# Altium integrated library National Semiconductor Amplifier.IntLib: 1665 symbols (part 25 of 44)
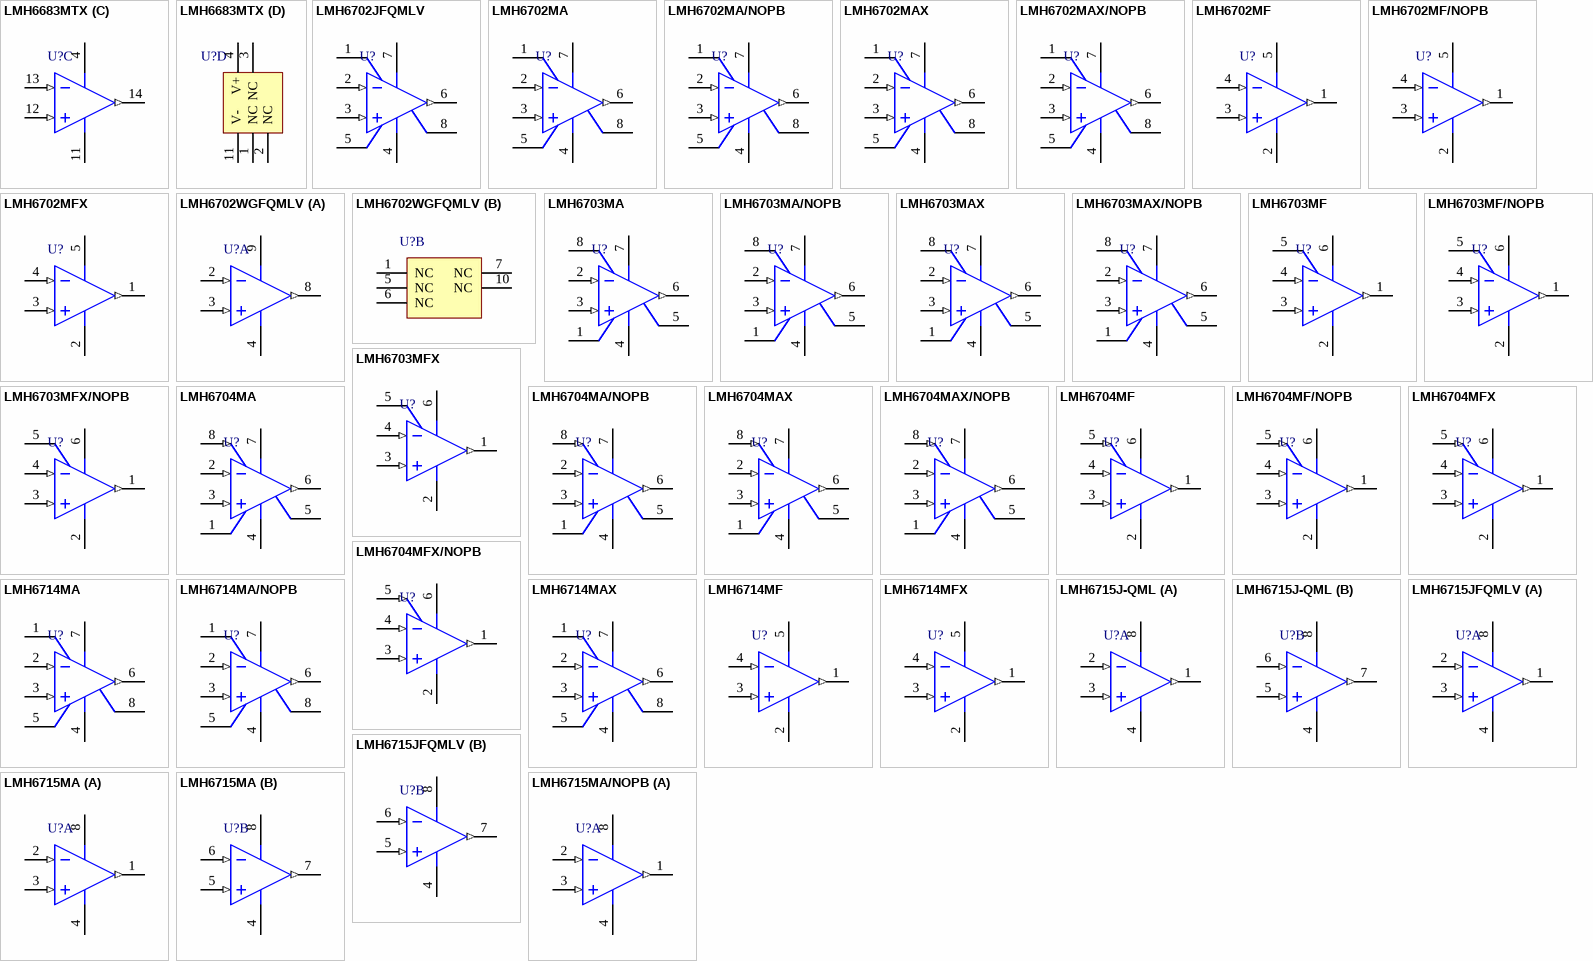
[diagram p108: symbols LMH6683MTX to LMH6715MA/NOPB]

## LMH6702MAX
designator U?
1.7 GHz, Ultra Low Distortion, Wideband Op Amp, 8-pin Narrow SOIC; PartNumber: LMH6702MAX; Manufacturer: National Semiconductor; PackageTopMarking: NSZXTT*LMH67*02MA; PowerWise: Y; CompType: Amplifiers; DatasheetVersion: May-2005; PackageVersion: revM, May-2009; PackageReference: M08A; PackageDescription: SOIC Narrow, 4.9 x 3.9 x 1.45mm, 8 Lead, 1.27mm Pitch; RoHS: N; PinCount: 8; High-Reliability: Y; Code_JEDEC: MS-012-AA; Code_IPC: SOIC127P600-8; ComponentLink1Description: Manufacturer URL; ComponentLink1URL: http://www.national.com/; ComponentLink2Description: LMH6702 Datasheet; ComponentLink2URL: http://www.national.com/ds/LM/LMH6702.pdf; ComponentLink3Description: LMH6702 Web Page; ComponentLink3URL: http://www.national.com/pf/LM/LMH6702.html; ComponentLink4Description: M08A Package Page; ComponentLink4URL: http://www.national.com/packaging/folders/m08a.html
footprint M08A_N (SOIC, 8-Leads, Body 4.9x3.9mm, Pitch 1.27mm, IPC Medium Density)
footprint M08A_L (SOIC, 8-Leads, Body 4.9x3.9mm, Pitch 1.27mm, IPC High Density)
footprint M08A_M (SOIC, 8-Leads, Body 4.9x3.9mm, Pitch 1.27mm, IPC Low Density)
pins: 1 NC, 2 IN- (in), 3 IN+ (in), 4 V- (power), 5 NC, 6 OUT (out), 7 V+ (power), 8 NC

## LMH6702MAX/NOPB
designator U?
1.7 GHz, Ultra Low Distortion, Wideband Op Amp, 8-pin Narrow SOIC, Pb-Free; PartNumber: LMH6702MAX/NOPB; Manufacturer: National Semiconductor; PackageTopMarking: NSZXTT*LMH67*02MA; PowerWise: Y; CompType: Amplifiers; DatasheetVersion: May-2005; PackageVersion: revM, May-2009; PackageReference: M08A; PackageDescription: SOIC Narrow, 4.9 x 3.9 x 1.45mm, 8 Lead, 1.27mm Pitch; RoHS: Y; PinCount: 8; High-Reliability: Y; Code_JEDEC: MS-012-AA; Code_IPC: SOIC127P600-8; ComponentLink1Description: Manufacturer URL; ComponentLink1URL: http://www.national.com/; ComponentLink2Description: LMH6702 Datasheet; ComponentLink2URL: http://www.national.com/ds/LM/LMH6702.pdf; ComponentLink3Description: LMH6702 Web Page; ComponentLink3URL: http://www.national.com/pf/LM/LMH6702.html; ComponentLink4Description: M08A Package Page; ComponentLink4URL: http://www.national.com/packaging/folders/m08a.html
footprint M08A_N (SOIC, 8-Leads, Body 4.9x3.9mm, Pitch 1.27mm, IPC Medium Density)
footprint M08A_L (SOIC, 8-Leads, Body 4.9x3.9mm, Pitch 1.27mm, IPC High Density)
footprint M08A_M (SOIC, 8-Leads, Body 4.9x3.9mm, Pitch 1.27mm, IPC Low Density)
pins: 1 NC, 2 IN- (in), 3 IN+ (in), 4 V- (power), 5 NC, 6 OUT (out), 7 V+ (power), 8 NC

## LMH6702MF
designator U?
1.7 GHz, Ultra Low Distortion, Wideband Op Amp, 5-pin SOT-23; PartNumber: LMH6702MF; Manufacturer: National Semiconductor; PackageTopMarking: A83A*XTT; PowerWise: Y; CompType: Amplifiers; DatasheetVersion: May-2005; PackageVersion: revD, Aug-2008; PackageReference: MF05A; PackageDescription: Molded SOT-23, .115 x .063 x .040 in Body, 5 Lead, .0375 in Pitch; RoHS: N; PinCount: 5; High-Reliability: Y; ComponentLink1Description: Manufacturer URL; ComponentLink1URL: http://www.national.com/; ComponentLink2Description: LMH6702 Datasheet; ComponentLink2URL: http://www.national.com/ds/LM/LMH6702.pdf; ComponentLink3Description: LMH6702 Web Page; ComponentLink3URL: http://www.national.com/pf/LM/LMH6702.html; ComponentLink4Description: MF05A Package Page; ComponentLink4URL: http://www.national.com/packaging/folders/mf05a.html
footprint MF05A_N (SOT23, 5-Leads, Body 2.9x1.6mm, Pitch 0.95mm, Lead Span 2.8mm, IPC Medium Density)
footprint MF05A_L (SOT23, 5-Leads, Body 2.9x1.6mm, Pitch 0.95mm, Lead Span 2.8mm, IPC High Density)
footprint MF05A_M (SOT23, 5-Leads, Body 2.9x1.6mm, Pitch 0.95mm, Lead Span 2.8mm, IPC Low Density)
pins: 1 OUT (out), 2 V- (power), 3 IN+ (in), 4 IN- (in), 5 V+ (power)

## LMH6702MF/NOPB
designator U?
1.7 GHz, Ultra Low Distortion, Wideband Op Amp, 5-pin SOT-23, Pb-Free; PartNumber: LMH6702MF/NOPB; Manufacturer: National Semiconductor; PackageTopMarking: A83A*XTT; PowerWise: Y; CompType: Amplifiers; DatasheetVersion: May-2005; PackageVersion: revD, Aug-2008; PackageReference: MF05A; PackageDescription: Molded SOT-23, .115 x .063 x .040 in Body, 5 Lead, .0375 in Pitch; RoHS: Y; PinCount: 5; High-Reliability: Y; ComponentLink1Description: Manufacturer URL; ComponentLink1URL: http://www.national.com/; ComponentLink2Description: LMH6702 Datasheet; ComponentLink2URL: http://www.national.com/ds/LM/LMH6702.pdf; ComponentLink3Description: LMH6702 Web Page; ComponentLink3URL: http://www.national.com/pf/LM/LMH6702.html; ComponentLink4Description: MF05A Package Page; ComponentLink4URL: http://www.national.com/packaging/folders/mf05a.html
footprint MF05A_N (SOT23, 5-Leads, Body 2.9x1.6mm, Pitch 0.95mm, Lead Span 2.8mm, IPC Medium Density)
footprint MF05A_L (SOT23, 5-Leads, Body 2.9x1.6mm, Pitch 0.95mm, Lead Span 2.8mm, IPC High Density)
footprint MF05A_M (SOT23, 5-Leads, Body 2.9x1.6mm, Pitch 0.95mm, Lead Span 2.8mm, IPC Low Density)
pins: 1 OUT (out), 2 V- (power), 3 IN+ (in), 4 IN- (in), 5 V+ (power)

## LMH6702MFX
designator U?
1.7 GHz, Ultra Low Distortion, Wideband Op Amp, 5-pin SOT-23; PartNumber: LMH6702MFX; Manufacturer: National Semiconductor; PackageTopMarking: A83A*XTT; PowerWise: Y; CompType: Amplifiers; DatasheetVersion: May-2005; PackageVersion: revD, Aug-2008; PackageReference: MF05A; PackageDescription: Molded SOT-23, .115 x .063 x .040 in Body, 5 Lead, .0375 in Pitch; RoHS: N; PinCount: 5; High-Reliability: Y; ComponentLink1Description: Manufacturer URL; ComponentLink1URL: http://www.national.com/; ComponentLink2Description: LMH6702 Datasheet; ComponentLink2URL: http://www.national.com/ds/LM/LMH6702.pdf; ComponentLink3Description: LMH6702 Web Page; ComponentLink3URL: http://www.national.com/pf/LM/LMH6702.html; ComponentLink4Description: MF05A Package Page; ComponentLink4URL: http://www.national.com/packaging/folders/mf05a.html
footprint MF05A_N (SOT23, 5-Leads, Body 2.9x1.6mm, Pitch 0.95mm, Lead Span 2.8mm, IPC Medium Density)
footprint MF05A_L (SOT23, 5-Leads, Body 2.9x1.6mm, Pitch 0.95mm, Lead Span 2.8mm, IPC High Density)
footprint MF05A_M (SOT23, 5-Leads, Body 2.9x1.6mm, Pitch 0.95mm, Lead Span 2.8mm, IPC Low Density)
pins: 1 OUT (out), 2 V- (power), 3 IN+ (in), 4 IN- (in), 5 V+ (power)

## LMH6702WGFQMLV
designator U?
1.7 GHz, Ultra Low Distortion, Wideband Op Amp, 10-pin CerPACK; PartNumber: LMH6702WGFQMLV; Manufacturer: National Semiconductor; PackageTopMarking: NS5962F02*54601VZA*LMH6702*WGFQV Q*ZSSXXYYA; PowerWise: Y; CompType: Amplifiers; DatasheetVersion: Nov-2005; PackageVersion: revF, Oct-2008; PackageReference: WG10A; PackageDescription: Cerpack, .270 x .241 x .070in, 10 Lead, .050in Pitch, Gull Wing; RoHS: N; PinCount: 10; High-Reliability: Y; ComponentLink1Description: Manufacturer URL; ComponentLink1URL: http://www.national.com/; ComponentLink2Description: LMH6702 Datasheet; ComponentLink2URL: http://www.national.com/ds/LM/LMH6702QML.pdf; ComponentLink3Description: LMH6702 Web Page; ComponentLink3URL: http://www.national.com/pf/LM/LMH6702.html; ComponentLink4Description: WG10A Package Page; ComponentLink4URL: http://www.national.com/packaging/folders/wg10a.html
footprint WG10A_N (CERPACK, 10-Leads, Body 6.9x6.3mm, Pitch 1.27mm, IPC Medium Density)
footprint WG10A_L (CERPACK, 10-Leads, Body 6.9x6.3mm, Pitch 1.27mm, IPC High Density)
footprint WG10A_M (CERPACK, 10-Leads, Body 6.9x6.3mm, Pitch 1.27mm, IPC Low Density)
part A pins: 2 IN- (in), 3 IN+ (in), 4 V- (power), 8 OUT (out), 9 V+ (power)
part B pins: 1 NC, 5 NC, 6 NC, 7 NC, 10 NC

## LMH6703MA
designator U?
1.2 GHz, Low Distortion Op Amp with Shutdown, 8-pin Narrow SOIC; PartNumber: LMH6703MA; Manufacturer: National Semiconductor; PackageTopMarking: NSZXTT*LMH67*03MA; PowerWise: Y; CompType: Amplifiers; DatasheetVersion: May-2005; PackageVersion: revM, May-2009; PackageReference: M08A; PackageDescription: SOIC Narrow, 4.9 x 3.9 x 1.45mm, 8 Lead, 1.27mm Pitch; RoHS: N; PinCount: 8; High-Reliability: Y; Code_JEDEC: MS-012-AA; Code_IPC: SOIC127P600-8; ComponentLink1Description: Manufacturer URL; ComponentLink1URL: http://www.national.com/; ComponentLink2Description: LMH6703 Datasheet; ComponentLink2URL: http://www.national.com/ds/LM/LMH6703.pdf; ComponentLink3Description: LMH6703 Web Page; ComponentLink3URL: http://www.national.com/pf/LM/LMH6703.html; ComponentLink4Description: M08A Package Page; ComponentLink4URL: http://www.national.com/packaging/folders/m08a.html
footprint M08A_N (SOIC, 8-Leads, Body 4.9x3.9mm, Pitch 1.27mm, IPC Medium Density)
footprint M08A_L (SOIC, 8-Leads, Body 4.9x3.9mm, Pitch 1.27mm, IPC High Density)
footprint M08A_M (SOIC, 8-Leads, Body 4.9x3.9mm, Pitch 1.27mm, IPC Low Density)
pins: 1 NC, 2 IN- (in), 3 IN+ (in), 4 V- (power), 5 NC, 6 OUT (out), 7 V+ (power), 8 ~{SD}

## LMH6703MA/NOPB
designator U?
1.2 GHz, Low Distortion Op Amp with Shutdown, 8-pin Narrow SOIC, Pb-Free; PartNumber: LMH6703MA/NOPB; Manufacturer: National Semiconductor; PackageTopMarking: NSZXTT*LMH67*03MA; PowerWise: Y; CompType: Amplifiers; DatasheetVersion: May-2005; PackageVersion: revM, May-2009; PackageReference: M08A; PackageDescription: SOIC Narrow, 4.9 x 3.9 x 1.45mm, 8 Lead, 1.27mm Pitch; RoHS: Y; PinCount: 8; High-Reliability: Y; Code_JEDEC: MS-012-AA; Code_IPC: SOIC127P600-8; ComponentLink1Description: Manufacturer URL; ComponentLink1URL: http://www.national.com/; ComponentLink2Description: LMH6703 Datasheet; ComponentLink2URL: http://www.national.com/ds/LM/LMH6703.pdf; ComponentLink3Description: LMH6703 Web Page; ComponentLink3URL: http://www.national.com/pf/LM/LMH6703.html; ComponentLink4Description: M08A Package Page; ComponentLink4URL: http://www.national.com/packaging/folders/m08a.html
footprint M08A_N (SOIC, 8-Leads, Body 4.9x3.9mm, Pitch 1.27mm, IPC Medium Density)
footprint M08A_L (SOIC, 8-Leads, Body 4.9x3.9mm, Pitch 1.27mm, IPC High Density)
footprint M08A_M (SOIC, 8-Leads, Body 4.9x3.9mm, Pitch 1.27mm, IPC Low Density)
pins: 1 NC, 2 IN- (in), 3 IN+ (in), 4 V- (power), 5 NC, 6 OUT (out), 7 V+ (power), 8 ~{SD}

## LMH6703MAX
designator U?
1.2 GHz, Low Distortion Op Amp with Shutdown, 8-pin Narrow SOIC; PartNumber: LMH6703MAX; Manufacturer: National Semiconductor; PackageTopMarking: NSZXTT*LMH67*03MA; PowerWise: Y; CompType: Amplifiers; DatasheetVersion: May-2005; PackageVersion: revM, May-2009; PackageReference: M08A; PackageDescription: SOIC Narrow, 4.9 x 3.9 x 1.45mm, 8 Lead, 1.27mm Pitch; RoHS: N; PinCount: 8; High-Reliability: Y; Code_JEDEC: MS-012-AA; Code_IPC: SOIC127P600-8; ComponentLink1Description: Manufacturer URL; ComponentLink1URL: http://www.national.com/; ComponentLink2Description: LMH6703 Datasheet; ComponentLink2URL: http://www.national.com/ds/LM/LMH6703.pdf; ComponentLink3Description: LMH6703 Web Page; ComponentLink3URL: http://www.national.com/pf/LM/LMH6703.html; ComponentLink4Description: M08A Package Page; ComponentLink4URL: http://www.national.com/packaging/folders/m08a.html
footprint M08A_N (SOIC, 8-Leads, Body 4.9x3.9mm, Pitch 1.27mm, IPC Medium Density)
footprint M08A_L (SOIC, 8-Leads, Body 4.9x3.9mm, Pitch 1.27mm, IPC High Density)
footprint M08A_M (SOIC, 8-Leads, Body 4.9x3.9mm, Pitch 1.27mm, IPC Low Density)
pins: 1 NC, 2 IN- (in), 3 IN+ (in), 4 V- (power), 5 NC, 6 OUT (out), 7 V+ (power), 8 ~{SD}

## LMH6703MAX/NOPB
designator U?
1.2 GHz, Low Distortion Op Amp with Shutdown, 8-pin Narrow SOIC, Pb-Free; PartNumber: LMH6703MAX/NOPB; Manufacturer: National Semiconductor; PackageTopMarking: NSZXTT*LMH67*03MA; PowerWise: Y; CompType: Amplifiers; DatasheetVersion: May-2005; PackageVersion: revM, May-2009; PackageReference: M08A; PackageDescription: SOIC Narrow, 4.9 x 3.9 x 1.45mm, 8 Lead, 1.27mm Pitch; RoHS: Y; PinCount: 8; High-Reliability: Y; Code_JEDEC: MS-012-AA; Code_IPC: SOIC127P600-8; ComponentLink1Description: Manufacturer URL; ComponentLink1URL: http://www.national.com/; ComponentLink2Description: LMH6703 Datasheet; ComponentLink2URL: http://www.national.com/ds/LM/LMH6703.pdf; ComponentLink3Description: LMH6703 Web Page; ComponentLink3URL: http://www.national.com/pf/LM/LMH6703.html; ComponentLink4Description: M08A Package Page; ComponentLink4URL: http://www.national.com/packaging/folders/m08a.html
footprint M08A_N (SOIC, 8-Leads, Body 4.9x3.9mm, Pitch 1.27mm, IPC Medium Density)
footprint M08A_L (SOIC, 8-Leads, Body 4.9x3.9mm, Pitch 1.27mm, IPC High Density)
footprint M08A_M (SOIC, 8-Leads, Body 4.9x3.9mm, Pitch 1.27mm, IPC Low Density)
pins: 1 NC, 2 IN- (in), 3 IN+ (in), 4 V- (power), 5 NC, 6 OUT (out), 7 V+ (power), 8 ~{SD}

## LMH6703MF
designator U?
1.2 GHz, Low Distortion Op Amp with Shutdown, 6-pin SOT-23; PartNumber: LMH6703MF; Manufacturer: National Semiconductor; PackageTopMarking: AR1A*XTT; PowerWise: Y; CompType: Amplifiers; DatasheetVersion: May-2005; PackageVersion: revC, Sep-2005; PackageReference: MF06A; PackageDescription: Molded SOT-23, .115 x .063 x .040in Body, 6 Lead, .0375in in Pitch; RoHS: N; PinCount: 6; High-Reliability: Y; Code_JEDEC: MO-178-AB; Code_IPC: SOT26A-6; ComponentLink1Description: Manufacturer URL; ComponentLink1URL: http://www.national.com/; ComponentLink2Description: LMH6703 Datasheet; ComponentLink2URL: http://www.national.com/ds/LM/LMH6703.pdf; ComponentLink3Description: LMH6703 Web Page; ComponentLink3URL: http://www.national.com/pf/LM/LMH6703.html; ComponentLink4Description: MF06A Package Page; ComponentLink4URL: http://www.national.com/packaging/folders/mf06a.html
footprint MF06A_N (SOT23, 6-Leads, Body 2.9x1.6mm, Pitch 0.95mm, Lead Span 2.8mm, IPC Medium Density)
footprint MF06A_L (SOT23, 6-Leads, Body 2.9x1.6mm, Pitch 0.95mm, Lead Span 2.8mm, IPC High Density)
footprint MF06A_M (SOT23, 6-Leads, Body 2.9x1.6mm, Pitch 0.95mm, Lead Span 2.8mm, IPC Low Density)
pins: 1 OUT (out), 2 V- (power), 3 IN+ (in), 4 IN- (in), 5 ~{SD}, 6 V+ (power)

## LMH6703MF/NOPB
designator U?
1.2 GHz, Low Distortion Op Amp with Shutdown, 6-pin SOT-23, Pb-Free; PartNumber: LMH6703MF/NOPB; Manufacturer: National Semiconductor; PackageTopMarking: AR1A*XTT; PowerWise: Y; CompType: Amplifiers; DatasheetVersion: May-2005; PackageVersion: revC, Sep-2005; PackageReference: MF06A; PackageDescription: Molded SOT-23, .115 x .063 x .040in Body, 6 Lead, .0375in in Pitch; RoHS: Y; PinCount: 6; High-Reliability: Y; Code_JEDEC: MO-178-AB; Code_IPC: SOT26A-6; ComponentLink1Description: Manufacturer URL; ComponentLink1URL: http://www.national.com/; ComponentLink2Description: LMH6703 Datasheet; ComponentLink2URL: http://www.national.com/ds/LM/LMH6703.pdf; ComponentLink3Description: LMH6703 Web Page; ComponentLink3URL: http://www.national.com/pf/LM/LMH6703.html; ComponentLink4Description: MF06A Package Page; ComponentLink4URL: http://www.national.com/packaging/folders/mf06a.html
footprint MF06A_N (SOT23, 6-Leads, Body 2.9x1.6mm, Pitch 0.95mm, Lead Span 2.8mm, IPC Medium Density)
footprint MF06A_L (SOT23, 6-Leads, Body 2.9x1.6mm, Pitch 0.95mm, Lead Span 2.8mm, IPC High Density)
footprint MF06A_M (SOT23, 6-Leads, Body 2.9x1.6mm, Pitch 0.95mm, Lead Span 2.8mm, IPC Low Density)
pins: 1 OUT (out), 2 V- (power), 3 IN+ (in), 4 IN- (in), 5 ~{SD}, 6 V+ (power)

## LMH6703MFX
designator U?
1.2 GHz, Low Distortion Op Amp with Shutdown, 6-pin SOT-23; PartNumber: LMH6703MFX; Manufacturer: National Semiconductor; PackageTopMarking: AR1A*XTT; PowerWise: Y; CompType: Amplifiers; DatasheetVersion: May-2005; PackageVersion: revC, Sep-2005; PackageReference: MF06A; PackageDescription: Molded SOT-23, .115 x .063 x .040in Body, 6 Lead, .0375in in Pitch; RoHS: N; PinCount: 6; High-Reliability: Y; Code_JEDEC: MO-178-AB; Code_IPC: SOT26A-6; ComponentLink1Description: Manufacturer URL; ComponentLink1URL: http://www.national.com/; ComponentLink2Description: LMH6703 Datasheet; ComponentLink2URL: http://www.national.com/ds/LM/LMH6703.pdf; ComponentLink3Description: LMH6703 Web Page; ComponentLink3URL: http://www.national.com/pf/LM/LMH6703.html; ComponentLink4Description: MF06A Package Page; ComponentLink4URL: http://www.national.com/packaging/folders/mf06a.html
footprint MF06A_N (SOT23, 6-Leads, Body 2.9x1.6mm, Pitch 0.95mm, Lead Span 2.8mm, IPC Medium Density)
footprint MF06A_L (SOT23, 6-Leads, Body 2.9x1.6mm, Pitch 0.95mm, Lead Span 2.8mm, IPC High Density)
footprint MF06A_M (SOT23, 6-Leads, Body 2.9x1.6mm, Pitch 0.95mm, Lead Span 2.8mm, IPC Low Density)
pins: 1 OUT (out), 2 V- (power), 3 IN+ (in), 4 IN- (in), 5 ~{SD}, 6 V+ (power)

## LMH6703MFX/NOPB
designator U?
1.2 GHz, Low Distortion Op Amp with Shutdown, 6-pin SOT-23, Pb-Free; PartNumber: LMH6703MFX/NOPB; Manufacturer: National Semiconductor; PackageTopMarking: AR1A*XTT; PowerWise: Y; CompType: Amplifiers; DatasheetVersion: May-2005; PackageVersion: revC, Sep-2005; PackageReference: MF06A; PackageDescription: Molded SOT-23, .115 x .063 x .040in Body, 6 Lead, .0375in in Pitch; RoHS: Y; PinCount: 6; High-Reliability: Y; Code_JEDEC: MO-178-AB; Code_IPC: SOT26A-6; ComponentLink1Description: Manufacturer URL; ComponentLink1URL: http://www.national.com/; ComponentLink2Description: LMH6703 Datasheet; ComponentLink2URL: http://www.national.com/ds/LM/LMH6703.pdf; ComponentLink3Description: LMH6703 Web Page; ComponentLink3URL: http://www.national.com/pf/LM/LMH6703.html; ComponentLink4Description: MF06A Package Page; ComponentLink4URL: http://www.national.com/packaging/folders/mf06a.html
footprint MF06A_N (SOT23, 6-Leads, Body 2.9x1.6mm, Pitch 0.95mm, Lead Span 2.8mm, IPC Medium Density)
footprint MF06A_L (SOT23, 6-Leads, Body 2.9x1.6mm, Pitch 0.95mm, Lead Span 2.8mm, IPC High Density)
footprint MF06A_M (SOT23, 6-Leads, Body 2.9x1.6mm, Pitch 0.95mm, Lead Span 2.8mm, IPC Low Density)
pins: 1 OUT (out), 2 V- (power), 3 IN+ (in), 4 IN- (in), 5 ~{SD}, 6 V+ (power)

## LMH6704MA
designator U?
650 MHz Selectable Gain Buffer with Disable, 8-pin Narrow SOIC; PartNumber: LMH6704MA; Manufacturer: National Semiconductor; PackageTopMarking: NSZXTT*LMH67*04MA; PowerWise: N; CompType: Amplifiers; High-Reliability: Y; DatasheetVersion: Sep-2006; PackageVersion: revM, May-2009; PackageReference: M08A; PackageDescription: SOIC Narrow, 4.9 x 3.9 x 1.45mm, 8 Lead, 1.27mm Pitch; RoHS: N; PinCount: 8; Code_JEDEC: MS-012-AA; Code_IPC: SOIC127P600-8; ComponentLink1Description: Manufacturer URL; ComponentLink1URL: http://www.national.com/; ComponentLink2Description: LMH6704 Datasheet; ComponentLink2URL: http://www.national.com/ds/LM/LMH6704.pdf; ComponentLink3Description: LMH6704 Web Page; ComponentLink3URL: http://www.national.com/pf/LM/LMH6704.html; ComponentLink4Description: M08A Package Page; ComponentLink4URL: http://www.national.com/packaging/folders/m08a.html
footprint M08A_N (SOIC, 8-Leads, Body 4.9x3.9mm, Pitch 1.27mm, IPC Medium Density)
footprint M08A_L (SOIC, 8-Leads, Body 4.9x3.9mm, Pitch 1.27mm, IPC High Density)
footprint M08A_M (SOIC, 8-Leads, Body 4.9x3.9mm, Pitch 1.27mm, IPC Low Density)
pins: 1 NC, 2 IN- (in), 3 IN+ (in), 4 VS- (power), 5 NC, 6 OUT (out), 7 VS+ (power), 8 ~{DIS} (in)

## LMH6704MA/NOPB
designator U?
650 MHz Selectable Gain Buffer with Disable, 8-pin Narrow SOIC, Pb-Free; PartNumber: LMH6704MA/NOPB; Manufacturer: National Semiconductor; PackageTopMarking: NSZXTT*LMH67*04MA; PowerWise: N; CompType: Amplifiers; High-Reliability: Y; DatasheetVersion: Sep-2006; PackageVersion: revM, May-2009; PackageReference: M08A; PackageDescription: SOIC Narrow, 4.9 x 3.9 x 1.45mm, 8 Lead, 1.27mm Pitch; RoHS: Y; PinCount: 8; Code_JEDEC: MS-012-AA; Code_IPC: SOIC127P600-8; ComponentLink1Description: Manufacturer URL; ComponentLink1URL: http://www.national.com/; ComponentLink2Description: LMH6704 Datasheet; ComponentLink2URL: http://www.national.com/ds/LM/LMH6704.pdf; ComponentLink3Description: LMH6704 Web Page; ComponentLink3URL: http://www.national.com/pf/LM/LMH6704.html; ComponentLink4Description: M08A Package Page; ComponentLink4URL: http://www.national.com/packaging/folders/m08a.html
footprint M08A_N (SOIC, 8-Leads, Body 4.9x3.9mm, Pitch 1.27mm, IPC Medium Density)
footprint M08A_L (SOIC, 8-Leads, Body 4.9x3.9mm, Pitch 1.27mm, IPC High Density)
footprint M08A_M (SOIC, 8-Leads, Body 4.9x3.9mm, Pitch 1.27mm, IPC Low Density)
pins: 1 NC, 2 IN- (in), 3 IN+ (in), 4 VS- (power), 5 NC, 6 OUT (out), 7 VS+ (power), 8 ~{DIS} (in)

## LMH6704MAX
designator U?
650 MHz Selectable Gain Buffer with Disable, 8-pin Narrow SOIC; PartNumber: LMH6704MAX; Manufacturer: National Semiconductor; PackageTopMarking: NSZXTT*LMH67*04MA; PowerWise: N; CompType: Amplifiers; High-Reliability: Y; DatasheetVersion: Sep-2006; PackageVersion: revM, May-2009; PackageReference: M08A; PackageDescription: SOIC Narrow, 4.9 x 3.9 x 1.45mm, 8 Lead, 1.27mm Pitch; RoHS: N; PinCount: 8; Code_JEDEC: MS-012-AA; Code_IPC: SOIC127P600-8; ComponentLink1Description: Manufacturer URL; ComponentLink1URL: http://www.national.com/; ComponentLink2Description: LMH6704 Datasheet; ComponentLink2URL: http://www.national.com/ds/LM/LMH6704.pdf; ComponentLink3Description: LMH6704 Web Page; ComponentLink3URL: http://www.national.com/pf/LM/LMH6704.html; ComponentLink4Description: M08A Package Page; ComponentLink4URL: http://www.national.com/packaging/folders/m08a.html
footprint M08A_N (SOIC, 8-Leads, Body 4.9x3.9mm, Pitch 1.27mm, IPC Medium Density)
footprint M08A_L (SOIC, 8-Leads, Body 4.9x3.9mm, Pitch 1.27mm, IPC High Density)
footprint M08A_M (SOIC, 8-Leads, Body 4.9x3.9mm, Pitch 1.27mm, IPC Low Density)
pins: 1 NC, 2 IN- (in), 3 IN+ (in), 4 VS- (power), 5 NC, 6 OUT (out), 7 VS+ (power), 8 ~{DIS} (in)

## LMH6704MAX/NOPB
designator U?
650 MHz Selectable Gain Buffer with Disable, 8-pin Narrow SOIC, Pb-Free; PartNumber: LMH6704MAX/NOPB; Manufacturer: National Semiconductor; PackageTopMarking: NSZXTT*LMH67*04MA; PowerWise: N; CompType: Amplifiers; High-Reliability: Y; DatasheetVersion: Sep-2006; PackageVersion: revM, May-2009; PackageReference: M08A; PackageDescription: SOIC Narrow, 4.9 x 3.9 x 1.45mm, 8 Lead, 1.27mm Pitch; RoHS: Y; PinCount: 8; Code_JEDEC: MS-012-AA; Code_IPC: SOIC127P600-8; ComponentLink1Description: Manufacturer URL; ComponentLink1URL: http://www.national.com/; ComponentLink2Description: LMH6704 Datasheet; ComponentLink2URL: http://www.national.com/ds/LM/LMH6704.pdf; ComponentLink3Description: LMH6704 Web Page; ComponentLink3URL: http://www.national.com/pf/LM/LMH6704.html; ComponentLink4Description: M08A Package Page; ComponentLink4URL: http://www.national.com/packaging/folders/m08a.html
footprint M08A_N (SOIC, 8-Leads, Body 4.9x3.9mm, Pitch 1.27mm, IPC Medium Density)
footprint M08A_L (SOIC, 8-Leads, Body 4.9x3.9mm, Pitch 1.27mm, IPC High Density)
footprint M08A_M (SOIC, 8-Leads, Body 4.9x3.9mm, Pitch 1.27mm, IPC Low Density)
pins: 1 NC, 2 IN- (in), 3 IN+ (in), 4 VS- (power), 5 NC, 6 OUT (out), 7 VS+ (power), 8 ~{DIS} (in)

## LMH6704MF
designator U?
650 MHz Selectable Gain Buffer with Disable, 6-pin SOT-23; PartNumber: LMH6704MF; Manufacturer: National Semiconductor; PackageTopMarking: B07A*XTT; PowerWise: N; CompType: Amplifiers; High-Reliability: Y; DatasheetVersion: Sep-2006; PackageVersion: revC, Sep-2005; PackageReference: MF06A; PackageDescription: Molded SOT-23, .115 x .063 x .040in Body, 6 Lead, .0375in in Pitch; RoHS: N; PinCount: 6; Code_JEDEC: MO-178-AB; Code_IPC: SOT26A-6; ComponentLink1Description: Manufacturer URL; ComponentLink1URL: http://www.national.com/; ComponentLink2Description: LMH6704 Datasheet; ComponentLink2URL: http://www.national.com/ds/LM/LMH6704.pdf; ComponentLink3Description: LMH6704 Web Page; ComponentLink3URL: http://www.national.com/pf/LM/LMH6704.html; ComponentLink4Description: MF06A Package Page; ComponentLink4URL: http://www.national.com/packaging/folders/mf06a.html
footprint MF06A_N (SOT23, 6-Leads, Body 2.9x1.6mm, Pitch 0.95mm, Lead Span 2.8mm, IPC Medium Density)
footprint MF06A_L (SOT23, 6-Leads, Body 2.9x1.6mm, Pitch 0.95mm, Lead Span 2.8mm, IPC High Density)
footprint MF06A_M (SOT23, 6-Leads, Body 2.9x1.6mm, Pitch 0.95mm, Lead Span 2.8mm, IPC Low Density)
pins: 1 OUT (out), 2 VS- (power), 3 IN+ (in), 4 IN- (in), 5 ~{DIS} (in), 6 VS+ (power)

## LMH6704MF/NOPB
designator U?
650 MHz Selectable Gain Buffer with Disable, 6-pin SOT-23, Pb-Free; PartNumber: LMH6704MF/NOPB; Manufacturer: National Semiconductor; PackageTopMarking: B07A*XTT; PowerWise: N; CompType: Amplifiers; High-Reliability: Y; DatasheetVersion: Sep-2006; PackageVersion: revC, Sep-2005; PackageReference: MF06A; PackageDescription: Molded SOT-23, .115 x .063 x .040in Body, 6 Lead, .0375in in Pitch; RoHS: Y; PinCount: 6; Code_JEDEC: MO-178-AB; Code_IPC: SOT26A-6; ComponentLink1Description: Manufacturer URL; ComponentLink1URL: http://www.national.com/; ComponentLink2Description: LMH6704 Datasheet; ComponentLink2URL: http://www.national.com/ds/LM/LMH6704.pdf; ComponentLink3Description: LMH6704 Web Page; ComponentLink3URL: http://www.national.com/pf/LM/LMH6704.html; ComponentLink4Description: MF06A Package Page; ComponentLink4URL: http://www.national.com/packaging/folders/mf06a.html
footprint MF06A_N (SOT23, 6-Leads, Body 2.9x1.6mm, Pitch 0.95mm, Lead Span 2.8mm, IPC Medium Density)
footprint MF06A_L (SOT23, 6-Leads, Body 2.9x1.6mm, Pitch 0.95mm, Lead Span 2.8mm, IPC High Density)
footprint MF06A_M (SOT23, 6-Leads, Body 2.9x1.6mm, Pitch 0.95mm, Lead Span 2.8mm, IPC Low Density)
pins: 1 OUT (out), 2 VS- (power), 3 IN+ (in), 4 IN- (in), 5 ~{DIS} (in), 6 VS+ (power)

## LMH6704MFX
designator U?
650 MHz Selectable Gain Buffer with Disable, 6-pin SOT-23; PartNumber: LMH6704MFX; Manufacturer: National Semiconductor; PackageTopMarking: B07A*XTT; PowerWise: N; CompType: Amplifiers; High-Reliability: Y; DatasheetVersion: Sep-2006; PackageVersion: revC, Sep-2005; PackageReference: MF06A; PackageDescription: Molded SOT-23, .115 x .063 x .040in Body, 6 Lead, .0375in in Pitch; RoHS: N; PinCount: 6; Code_JEDEC: MO-178-AB; Code_IPC: SOT26A-6; ComponentLink1Description: Manufacturer URL; ComponentLink1URL: http://www.national.com/; ComponentLink2Description: LMH6704 Datasheet; ComponentLink2URL: http://www.national.com/ds/LM/LMH6704.pdf; ComponentLink3Description: LMH6704 Web Page; ComponentLink3URL: http://www.national.com/pf/LM/LMH6704.html; ComponentLink4Description: MF06A Package Page; ComponentLink4URL: http://www.national.com/packaging/folders/mf06a.html
footprint MF06A_N (SOT23, 6-Leads, Body 2.9x1.6mm, Pitch 0.95mm, Lead Span 2.8mm, IPC Medium Density)
footprint MF06A_L (SOT23, 6-Leads, Body 2.9x1.6mm, Pitch 0.95mm, Lead Span 2.8mm, IPC High Density)
footprint MF06A_M (SOT23, 6-Leads, Body 2.9x1.6mm, Pitch 0.95mm, Lead Span 2.8mm, IPC Low Density)
pins: 1 OUT (out), 2 VS- (power), 3 IN+ (in), 4 IN- (in), 5 ~{DIS} (in), 6 VS+ (power)

## LMH6704MFX/NOPB
designator U?
650 MHz Selectable Gain Buffer with Disable, 6-pin SOT-23, Pb-Free; PartNumber: LMH6704MFX/NOPB; Manufacturer: National Semiconductor; PackageTopMarking: B07A*XTT; PowerWise: N; CompType: Amplifiers; High-Reliability: Y; DatasheetVersion: Sep-2006; PackageVersion: revC, Sep-2005; PackageReference: MF06A; PackageDescription: Molded SOT-23, .115 x .063 x .040in Body, 6 Lead, .0375in in Pitch; RoHS: Y; PinCount: 6; Code_JEDEC: MO-178-AB; Code_IPC: SOT26A-6; ComponentLink1Description: Manufacturer URL; ComponentLink1URL: http://www.national.com/; ComponentLink2Description: LMH6704 Datasheet; ComponentLink2URL: http://www.national.com/ds/LM/LMH6704.pdf; ComponentLink3Description: LMH6704 Web Page; ComponentLink3URL: http://www.national.com/pf/LM/LMH6704.html; ComponentLink4Description: MF06A Package Page; ComponentLink4URL: http://www.national.com/packaging/folders/mf06a.html
footprint MF06A_N (SOT23, 6-Leads, Body 2.9x1.6mm, Pitch 0.95mm, Lead Span 2.8mm, IPC Medium Density)
footprint MF06A_L (SOT23, 6-Leads, Body 2.9x1.6mm, Pitch 0.95mm, Lead Span 2.8mm, IPC High Density)
footprint MF06A_M (SOT23, 6-Leads, Body 2.9x1.6mm, Pitch 0.95mm, Lead Span 2.8mm, IPC Low Density)
pins: 1 OUT (out), 2 VS- (power), 3 IN+ (in), 4 IN- (in), 5 ~{DIS} (in), 6 VS+ (power)

## LMH6714MA
designator U?
Single Wideband Video Op Amp, 8-pin Narrow SOIC; PartNumber: LMH6714MA; Manufacturer: National Semiconductor; PackageTopMarking: NSZXTT*LMH67*14MA; PowerWise: Y; CompType: Amplifiers; DatasheetVersion: Oct-2009; PackageVersion: revM, May-2009; PackageReference: M08A; PackageDescription: SOIC Narrow, 4.9 x 3.9 x 1.45mm, 8 Lead, 1.27mm Pitch; RoHS: N; PinCount: 8; High-Reliability: Y; Code_JEDEC: MS-012-AA; Code_IPC: SOIC127P600-8; ComponentLink1Description: Manufacturer URL; ComponentLink1URL: http://www.national.com/; ComponentLink2Description: LMH6714 Datasheet; ComponentLink2URL: http://www.national.com/ds/LM/LMH6714.pdf; ComponentLink3Description: LMH6714 Web Page; ComponentLink3URL: http://www.national.com/pf/LM/LMH6714.html; ComponentLink4Description: M08A Package Page; ComponentLink4URL: http://www.national.com/packaging/folders/m08a.html
footprint M08A_N (SOIC, 8-Leads, Body 4.9x3.9mm, Pitch 1.27mm, IPC Medium Density)
footprint M08A_L (SOIC, 8-Leads, Body 4.9x3.9mm, Pitch 1.27mm, IPC High Density)
footprint M08A_M (SOIC, 8-Leads, Body 4.9x3.9mm, Pitch 1.27mm, IPC Low Density)
pins: 1 NC, 2 IN- (in), 3 IN+ (in), 4 V- (power), 5 NC, 6 OUT (out), 7 V+ (power), 8 NC

## LMH6714MA/NOPB
designator U?
Single Wideband Video Op Amp, 8-pin Narrow SOIC, Pb-Free; PartNumber: LMH6714MA/NOPB; Manufacturer: National Semiconductor; PackageTopMarking: NSZXTT*LMH67*14MA; PowerWise: Y; CompType: Amplifiers; DatasheetVersion: Oct-2009; PackageVersion: revM, May-2009; PackageReference: M08A; PackageDescription: SOIC Narrow, 4.9 x 3.9 x 1.45mm, 8 Lead, 1.27mm Pitch; RoHS: Y; PinCount: 8; High-Reliability: Y; Code_JEDEC: MS-012-AA; Code_IPC: SOIC127P600-8; ComponentLink1Description: Manufacturer URL; ComponentLink1URL: http://www.national.com/; ComponentLink2Description: LMH6714 Datasheet; ComponentLink2URL: http://www.national.com/ds/LM/LMH6714.pdf; ComponentLink3Description: LMH6714 Web Page; ComponentLink3URL: http://www.national.com/pf/LM/LMH6714.html; ComponentLink4Description: M08A Package Page; ComponentLink4URL: http://www.national.com/packaging/folders/m08a.html
footprint M08A_N (SOIC, 8-Leads, Body 4.9x3.9mm, Pitch 1.27mm, IPC Medium Density)
footprint M08A_L (SOIC, 8-Leads, Body 4.9x3.9mm, Pitch 1.27mm, IPC High Density)
footprint M08A_M (SOIC, 8-Leads, Body 4.9x3.9mm, Pitch 1.27mm, IPC Low Density)
pins: 1 NC, 2 IN- (in), 3 IN+ (in), 4 V- (power), 5 NC, 6 OUT (out), 7 V+ (power), 8 NC

## LMH6714MAX
designator U?
Single Wideband Video Op Amp, 8-pin Narrow SOIC; PartNumber: LMH6714MAX; Manufacturer: National Semiconductor; PackageTopMarking: NSZXTT*LMH67*14MA; PowerWise: Y; CompType: Amplifiers; DatasheetVersion: Oct-2009; PackageVersion: revM, May-2009; PackageReference: M08A; PackageDescription: SOIC Narrow, 4.9 x 3.9 x 1.45mm, 8 Lead, 1.27mm Pitch; RoHS: N; PinCount: 8; High-Reliability: Y; Code_JEDEC: MS-012-AA; Code_IPC: SOIC127P600-8; ComponentLink1Description: Manufacturer URL; ComponentLink1URL: http://www.national.com/; ComponentLink2Description: LMH6714 Datasheet; ComponentLink2URL: http://www.national.com/ds/LM/LMH6714.pdf; ComponentLink3Description: LMH6714 Web Page; ComponentLink3URL: http://www.national.com/pf/LM/LMH6714.html; ComponentLink4Description: M08A Package Page; ComponentLink4URL: http://www.national.com/packaging/folders/m08a.html
footprint M08A_N (SOIC, 8-Leads, Body 4.9x3.9mm, Pitch 1.27mm, IPC Medium Density)
footprint M08A_L (SOIC, 8-Leads, Body 4.9x3.9mm, Pitch 1.27mm, IPC High Density)
footprint M08A_M (SOIC, 8-Leads, Body 4.9x3.9mm, Pitch 1.27mm, IPC Low Density)
pins: 1 NC, 2 IN- (in), 3 IN+ (in), 4 V- (power), 5 NC, 6 OUT (out), 7 V+ (power), 8 NC

## LMH6714MF
designator U?
Single Wideband Video Operational Amplifier, 5-pin SOT-23; PartNumber: LMH6714MF; Manufacturer: National Semiconductor; PackageTopMarking: A95A*XTT; PowerWise: Y; CompType: Amplifiers; DatasheetVersion: Oct-2009; PackageVersion: revD, Aug-2008; PackageReference: MF05A; PackageDescription: Molded SOT-23, .115 x .063 x .040 in Body, 5 Lead, .0375 in Pitch; RoHS: N; PinCount: 5; High-Reliability: Y; ComponentLink1Description: Manufacturer URL; ComponentLink1URL: http://www.national.com/; ComponentLink2Description: LMH6714 Datasheet; ComponentLink2URL: http://www.national.com/ds/LM/LMH6714.pdf; ComponentLink3Description: LMH6714 Web Page; ComponentLink3URL: http://www.national.com/pf/LM/LMH6714.html; ComponentLink4Description: MF05A Package Page; ComponentLink4URL: http://www.national.com/packaging/folders/mf05a.html
footprint MF05A_N (SOT23, 5-Leads, Body 2.9x1.6mm, Pitch 0.95mm, Lead Span 2.8mm, IPC Medium Density)
footprint MF05A_L (SOT23, 5-Leads, Body 2.9x1.6mm, Pitch 0.95mm, Lead Span 2.8mm, IPC High Density)
footprint MF05A_M (SOT23, 5-Leads, Body 2.9x1.6mm, Pitch 0.95mm, Lead Span 2.8mm, IPC Low Density)
pins: 1 OUT (out), 2 V- (power), 3 IN+ (in), 4 IN- (in), 5 V+ (power)

## LMH6714MFX
designator U?
Single Wideband Video Op Amp, 5-pin SOT-23; PartNumber: LMH6714MFX; Manufacturer: National Semiconductor; PackageTopMarking: A95A*XTT; PowerWise: Y; CompType: Amplifiers; DatasheetVersion: Oct-2009; PackageVersion: revD, Aug-2008; PackageReference: MF05A; PackageDescription: Molded SOT-23, .115 x .063 x .040 in Body, 5 Lead, .0375 in Pitch; RoHS: N; PinCount: 5; High-Reliability: Y; ComponentLink1Description: Manufacturer URL; ComponentLink1URL: http://www.national.com/; ComponentLink2Description: LMH6714 Datasheet; ComponentLink2URL: http://www.national.com/ds/LM/LMH6714.pdf; ComponentLink3Description: LMH6714 Web Page; ComponentLink3URL: http://www.national.com/pf/LM/LMH6714.html; ComponentLink4Description: MF05A Package Page; ComponentLink4URL: http://www.national.com/packaging/folders/mf05a.html
footprint MF05A_N (SOT23, 5-Leads, Body 2.9x1.6mm, Pitch 0.95mm, Lead Span 2.8mm, IPC Medium Density)
footprint MF05A_L (SOT23, 5-Leads, Body 2.9x1.6mm, Pitch 0.95mm, Lead Span 2.8mm, IPC High Density)
footprint MF05A_M (SOT23, 5-Leads, Body 2.9x1.6mm, Pitch 0.95mm, Lead Span 2.8mm, IPC Low Density)
pins: 1 OUT (out), 2 V- (power), 3 IN+ (in), 4 IN- (in), 5 V+ (power)

## LMH6715J-QML
designator U?
Dual Wideband Video Op Amp, 8-pin CerDIP; PartNumber: LMH6715J-QML; Manufacturer: National Semiconductor; PackageTopMarking: NSZSSXXYYA*LMH6715J-*QML 5962-*0254701QPA Q; PowerWise: N; CompType: Amplifiers; High-Reliability: Y; DatasheetVersion: Jan-2003; PackageVersion: revM, Jul-2002; PackageReference: J08A; PackageDescription: Cerdip, .400 x .310in Body, 8 Lead, .300in Centers, .100in Pitch; RoHS: N; PinCount: 8; ComponentLink1Description: Manufacturer URL; ComponentLink1URL: http://www.national.com/; ComponentLink2Description: LMH6715 Datasheet; ComponentLink2URL: http://www.national.com/ds/LM/LMH6715QML.pdf; ComponentLink3Description: LMH6715 Web Page; ComponentLink3URL: http://www.national.com/pf/LM/LMH6715.html; ComponentLink4Description: J08A Package Page; ComponentLink4URL: http://www.national.com/packaging/folders/j08a.html
footprint J08A (DIP, 8-Leads, Row Spacing 7.62mm, Pitch 2.54mm, Body 9.78x6.73mm)
pins on every part: 4 V- (power), 8 V+ (power)
part A pins: 1 OUT1 (out), 2 IN1- (in), 3 IN1+ (in)
part B pins: 5 IN2+ (in), 6 IN2- (in), 7 OUT2 (out)

## LMH6715JFQMLV
designator U?
Dual Wideband Video Op Amp, 8-pin CerDIP; PartNumber: LMH6715JFQMLV; Manufacturer: National Semiconductor; PackageTopMarking: NSZSSXXYYA*LMH6715JF*QV Q 5962F*0254701VPA; PowerWise: N; CompType: Amplifiers; High-Reliability: Y; DatasheetVersion: Jan-2003; PackageVersion: revM, Jul-2002; PackageReference: J08A; PackageDescription: Cerdip, .400 x .310in Body, 8 Lead, .300in Centers, .100in Pitch; RoHS: N; PinCount: 8; ComponentLink1Description: Manufacturer URL; ComponentLink1URL: http://www.national.com/; ComponentLink2Description: LMH6715 Datasheet; ComponentLink2URL: http://www.national.com/ds/LM/LMH6715QML.pdf; ComponentLink3Description: LMH6715 Web Page; ComponentLink3URL: http://www.national.com/pf/LM/LMH6715.html; ComponentLink4Description: J08A Package Page; ComponentLink4URL: http://www.national.com/packaging/folders/j08a.html
footprint J08A (DIP, 8-Leads, Row Spacing 7.62mm, Pitch 2.54mm, Body 9.78x6.73mm)
pins on every part: 4 V- (power), 8 V+ (power)
part A pins: 1 OUT1 (out), 2 IN1- (in), 3 IN1+ (in)
part B pins: 5 IN2+ (in), 6 IN2- (in), 7 OUT2 (out)

## LMH6715MA
designator U?
Dual Wideband Video Op Amp, 8-pin Narrow SOIC; PartNumber: LMH6715MA; Manufacturer: National Semiconductor; PackageTopMarking: NSZXTT*LMH67*15MA; PowerWise: N; CompType: Amplifiers; High-Reliability: Y; DatasheetVersion: Jan-2003; PackageVersion: revM, May-2009; PackageReference: M08A; PackageDescription: SOIC Narrow, 4.9 x 3.9 x 1.45mm, 8 Lead, 1.27mm Pitch; RoHS: N; PinCount: 8; Code_JEDEC: MS-012-AA; Code_IPC: SOIC127P600-8; ComponentLink1Description: Manufacturer URL; ComponentLink1URL: http://www.national.com/; ComponentLink2Description: LMH6715 Datasheet; ComponentLink2URL: http://www.national.com/ds/LM/LMH6715.pdf; ComponentLink3Description: LMH6715 Web Page; ComponentLink3URL: http://www.national.com/pf/LM/LMH6715.html; ComponentLink4Description: M08A Package Page; ComponentLink4URL: http://www.national.com/packaging/folders/m08a.html
footprint M08A_N (SOIC, 8-Leads, Body 4.9x3.9mm, Pitch 1.27mm, IPC Medium Density)
footprint M08A_L (SOIC, 8-Leads, Body 4.9x3.9mm, Pitch 1.27mm, IPC High Density)
footprint M08A_M (SOIC, 8-Leads, Body 4.9x3.9mm, Pitch 1.27mm, IPC Low Density)
pins on every part: 4 V- (power), 8 V+ (power)
part A pins: 1 OUT1 (out), 2 IN1- (in), 3 IN1+ (in)
part B pins: 5 IN2+ (in), 6 IN2- (in), 7 OUT2 (out)

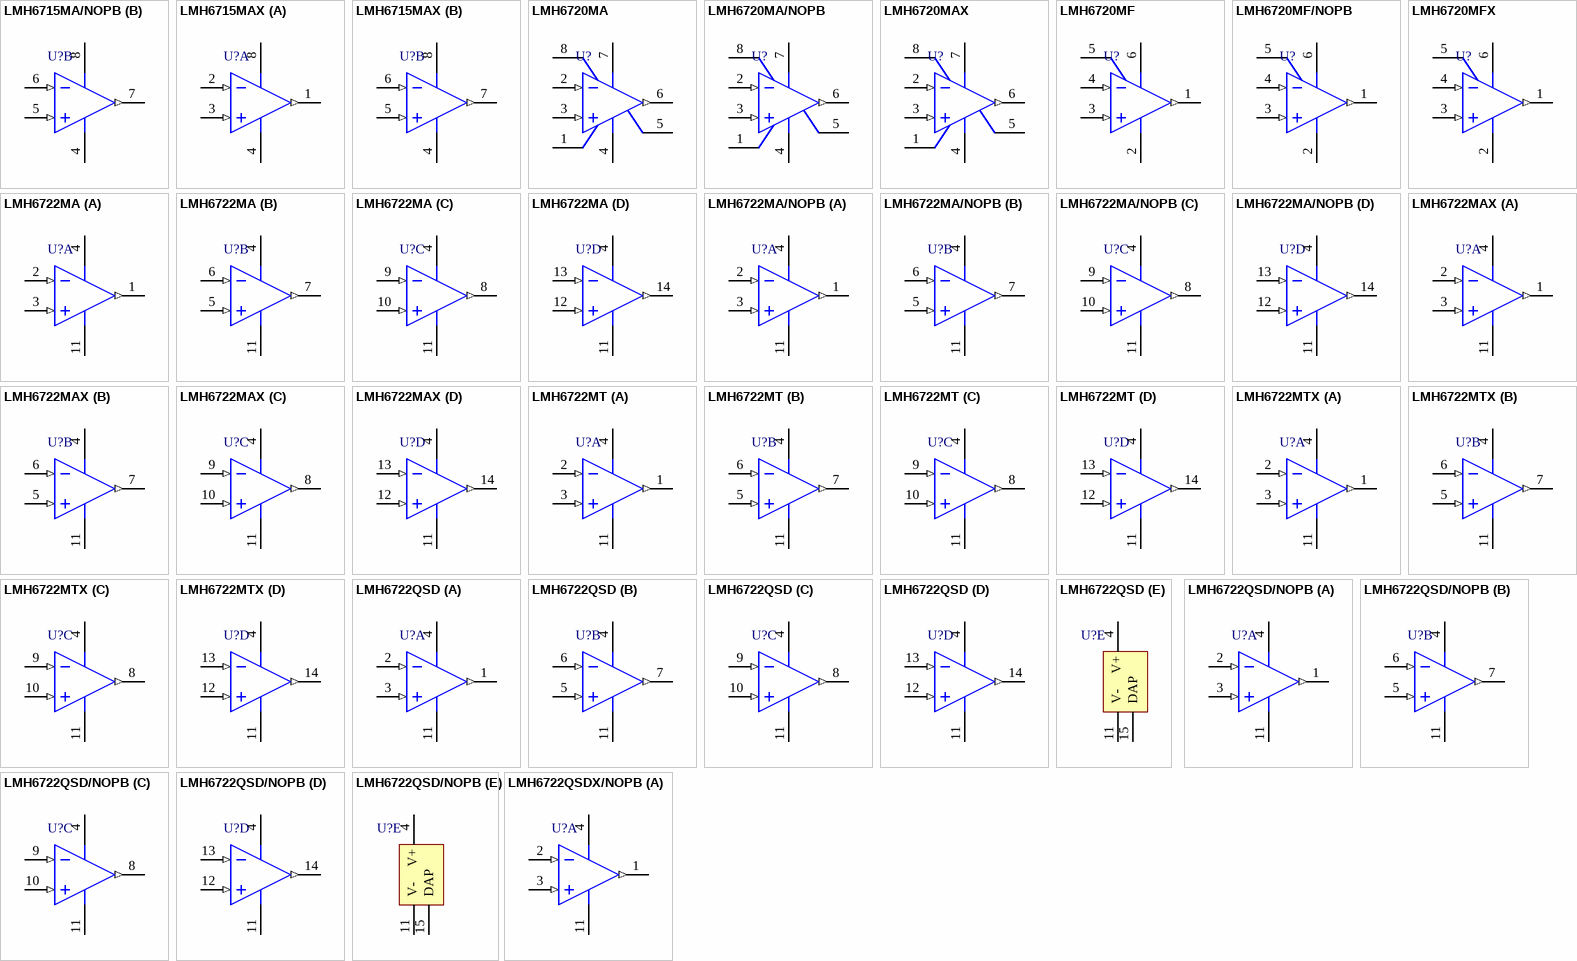
[diagram p51: symbols LMH6715MA/NOPB to LMH6722QSDX/NOPB]

## LMH6715MA/NOPB
designator U?
Dual Wideband Video Op Amp, 8-pin Narrow SOIC, Pb-Free; PartNumber: LMH6715MA/NOPB; Manufacturer: National Semiconductor; PackageTopMarking: NSZXTT*LMH67*15MA; PowerWise: N; CompType: Amplifiers; High-Reliability: Y; DatasheetVersion: Jan-2003; PackageVersion: revM, May-2009; PackageReference: M08A; PackageDescription: SOIC Narrow, 4.9 x 3.9 x 1.45mm, 8 Lead, 1.27mm Pitch; RoHS: Y; PinCount: 8; Code_JEDEC: MS-012-AA; Code_IPC: SOIC127P600-8; ComponentLink1Description: Manufacturer URL; ComponentLink1URL: http://www.national.com/; ComponentLink2Description: LMH6715 Datasheet; ComponentLink2URL: http://www.national.com/ds/LM/LMH6715.pdf; ComponentLink3Description: LMH6715 Web Page; ComponentLink3URL: http://www.national.com/pf/LM/LMH6715.html; ComponentLink4Description: M08A Package Page; ComponentLink4URL: http://www.national.com/packaging/folders/m08a.html
footprint M08A_N (SOIC, 8-Leads, Body 4.9x3.9mm, Pitch 1.27mm, IPC Medium Density)
footprint M08A_L (SOIC, 8-Leads, Body 4.9x3.9mm, Pitch 1.27mm, IPC High Density)
footprint M08A_M (SOIC, 8-Leads, Body 4.9x3.9mm, Pitch 1.27mm, IPC Low Density)
pins on every part: 4 V- (power), 8 V+ (power)
part A pins: 1 OUT1 (out), 2 IN1- (in), 3 IN1+ (in)
part B pins: 5 IN2+ (in), 6 IN2- (in), 7 OUT2 (out)

## LMH6715MAX
designator U?
Dual Wideband Video Op Amp, 8-pin Narrow SOIC; PartNumber: LMH6715MAX; Manufacturer: National Semiconductor; PackageTopMarking: NSZXTT*LMH67*15MA; PowerWise: N; CompType: Amplifiers; High-Reliability: Y; DatasheetVersion: Jan-2003; PackageVersion: revM, May-2009; PackageReference: M08A; PackageDescription: SOIC Narrow, 4.9 x 3.9 x 1.45mm, 8 Lead, 1.27mm Pitch; RoHS: N; PinCount: 8; Code_JEDEC: MS-012-AA; Code_IPC: SOIC127P600-8; ComponentLink1Description: Manufacturer URL; ComponentLink1URL: http://www.national.com/; ComponentLink2Description: LMH6715 Datasheet; ComponentLink2URL: http://www.national.com/ds/LM/LMH6715.pdf; ComponentLink3Description: LMH6715 Web Page; ComponentLink3URL: http://www.national.com/pf/LM/LMH6715.html; ComponentLink4Description: M08A Package Page; ComponentLink4URL: http://www.national.com/packaging/folders/m08a.html
footprint M08A_N (SOIC, 8-Leads, Body 4.9x3.9mm, Pitch 1.27mm, IPC Medium Density)
footprint M08A_L (SOIC, 8-Leads, Body 4.9x3.9mm, Pitch 1.27mm, IPC High Density)
footprint M08A_M (SOIC, 8-Leads, Body 4.9x3.9mm, Pitch 1.27mm, IPC Low Density)
pins on every part: 4 V- (power), 8 V+ (power)
part A pins: 1 OUT1 (out), 2 IN1- (in), 3 IN1+ (in)
part B pins: 5 IN2+ (in), 6 IN2- (in), 7 OUT2 (out)

## LMH6720MA
designator U?
Single Wideband Video Op Amp with Shutdown, 8-pin Narrow SOIC; PartNumber: LMH6720MA; Manufacturer: National Semiconductor; PackageTopMarking: NSZXTT*LMH67*20MA; PowerWise: Y; CompType: Amplifiers; DatasheetVersion: Oct-2008; PackageVersion: revM, May-2009; PackageReference: M08A; PackageDescription: SOIC Narrow, 4.9 x 3.9 x 1.45mm, 8 Lead, 1.27mm Pitch; RoHS: N; PinCount: 8; High-Reliability: Y; Code_JEDEC: MS-012-AA; Code_IPC: SOIC127P600-8; ComponentLink1Description: Manufacturer URL; ComponentLink1URL: http://www.national.com/; ComponentLink2Description: LMH6720 Datasheet; ComponentLink2URL: http://www.national.com/ds/LM/LMH6720.pdf; ComponentLink3Description: LMH6720 Web Page; ComponentLink3URL: http://www.national.com/pf/LM/LMH6720.html; ComponentLink4Description: M08A Package Page; ComponentLink4URL: http://www.national.com/packaging/folders/m08a.html
footprint M08A_N (SOIC, 8-Leads, Body 4.9x3.9mm, Pitch 1.27mm, IPC Medium Density)
footprint M08A_L (SOIC, 8-Leads, Body 4.9x3.9mm, Pitch 1.27mm, IPC High Density)
footprint M08A_M (SOIC, 8-Leads, Body 4.9x3.9mm, Pitch 1.27mm, IPC Low Density)
pins: 1 NC, 2 IN- (in), 3 IN+ (in), 4 V- (power), 5 NC, 6 OUT (out), 7 V+ (power), 8 ~{SD}

## LMH6720MA/NOPB
designator U?
Single Wideband Video Op Amp with Shutdown, 8-pin Narrow SOIC, Pb-Free; PartNumber: LMH6720MA/NOPB; Manufacturer: National Semiconductor; PackageTopMarking: NSZXTT*LMH67*20MA; PowerWise: Y; CompType: Amplifiers; DatasheetVersion: Oct-2008; PackageVersion: revM, May-2009; PackageReference: M08A; PackageDescription: SOIC Narrow, 4.9 x 3.9 x 1.45mm, 8 Lead, 1.27mm Pitch; RoHS: Y; PinCount: 8; High-Reliability: Y; Code_JEDEC: MS-012-AA; Code_IPC: SOIC127P600-8; ComponentLink1Description: Manufacturer URL; ComponentLink1URL: http://www.national.com/; ComponentLink2Description: LMH6720 Datasheet; ComponentLink2URL: http://www.national.com/ds/LM/LMH6720.pdf; ComponentLink3Description: LMH6720 Web Page; ComponentLink3URL: http://www.national.com/pf/LM/LMH6720.html; ComponentLink4Description: M08A Package Page; ComponentLink4URL: http://www.national.com/packaging/folders/m08a.html
footprint M08A_N (SOIC, 8-Leads, Body 4.9x3.9mm, Pitch 1.27mm, IPC Medium Density)
footprint M08A_L (SOIC, 8-Leads, Body 4.9x3.9mm, Pitch 1.27mm, IPC High Density)
footprint M08A_M (SOIC, 8-Leads, Body 4.9x3.9mm, Pitch 1.27mm, IPC Low Density)
pins: 1 NC, 2 IN- (in), 3 IN+ (in), 4 V- (power), 5 NC, 6 OUT (out), 7 V+ (power), 8 ~{SD}

## LMH6720MAX
designator U?
Single Wideband Video Op Amp with Shutdown, 8-pin Narrow SOIC; PartNumber: LMH6720MAX; Manufacturer: National Semiconductor; PackageTopMarking: NSZXTT*LMH67*20MA; PowerWise: Y; CompType: Amplifiers; DatasheetVersion: Oct-2008; PackageVersion: revM, May-2009; PackageReference: M08A; PackageDescription: SOIC Narrow, 4.9 x 3.9 x 1.45mm, 8 Lead, 1.27mm Pitch; RoHS: N; PinCount: 8; High-Reliability: Y; Code_JEDEC: MS-012-AA; Code_IPC: SOIC127P600-8; ComponentLink1Description: Manufacturer URL; ComponentLink1URL: http://www.national.com/; ComponentLink2Description: LMH6720 Datasheet; ComponentLink2URL: http://www.national.com/ds/LM/LMH6720.pdf; ComponentLink3Description: LMH6720 Web Page; ComponentLink3URL: http://www.national.com/pf/LM/LMH6720.html; ComponentLink4Description: M08A Package Page; ComponentLink4URL: http://www.national.com/packaging/folders/m08a.html
footprint M08A_N (SOIC, 8-Leads, Body 4.9x3.9mm, Pitch 1.27mm, IPC Medium Density)
footprint M08A_L (SOIC, 8-Leads, Body 4.9x3.9mm, Pitch 1.27mm, IPC High Density)
footprint M08A_M (SOIC, 8-Leads, Body 4.9x3.9mm, Pitch 1.27mm, IPC Low Density)
pins: 1 NC, 2 IN- (in), 3 IN+ (in), 4 V- (power), 5 NC, 6 OUT (out), 7 V+ (power), 8 ~{SD}

## LMH6720MF
designator U?
Single Wideband Video Op Amp with Shutdown, 6-pin SOT-23; PartNumber: LMH6720MF; Manufacturer: National Semiconductor; PackageTopMarking: A96A*XTT; PowerWise: Y; CompType: Amplifiers; DatasheetVersion: Oct-2008; PackageVersion: revC, Sep-2005; PackageReference: MF06A; PackageDescription: Molded SOT-23, .115 x .063 x .040in Body, 6 Lead, .0375in in Pitch; RoHS: N; PinCount: 6; High-Reliability: Y; Code_JEDEC: MO-178-AB; Code_IPC: SOT26A-6; ComponentLink1Description: Manufacturer URL; ComponentLink1URL: http://www.national.com/; ComponentLink2Description: LMH6720 Datasheet; ComponentLink2URL: http://www.national.com/ds/LM/LMH6720.pdf; ComponentLink3Description: LMH6720 Web Page; ComponentLink3URL: http://www.national.com/pf/LM/LMH6720.html; ComponentLink4Description: MF06A Package Page; ComponentLink4URL: http://www.national.com/packaging/folders/mf06a.html
footprint MF06A_N (SOT23, 6-Leads, Body 2.9x1.6mm, Pitch 0.95mm, Lead Span 2.8mm, IPC Medium Density)
footprint MF06A_L (SOT23, 6-Leads, Body 2.9x1.6mm, Pitch 0.95mm, Lead Span 2.8mm, IPC High Density)
footprint MF06A_M (SOT23, 6-Leads, Body 2.9x1.6mm, Pitch 0.95mm, Lead Span 2.8mm, IPC Low Density)
pins: 1 OUT (out), 2 V- (power), 3 IN+ (in), 4 IN- (in), 5 ~{SD}, 6 V+ (power)

## LMH6720MF/NOPB
designator U?
Single Wideband Video Op Amp with Shutdown, 6-pin SOT-23, Pb-Free; PartNumber: LMH6720MF/NOPB; Manufacturer: National Semiconductor; PackageTopMarking: A96A*XTT; PowerWise: Y; CompType: Amplifiers; DatasheetVersion: Oct-2008; PackageVersion: revC, Sep-2005; PackageReference: MF06A; PackageDescription: Molded SOT-23, .115 x .063 x .040in Body, 6 Lead, .0375in in Pitch; RoHS: Y; PinCount: 6; High-Reliability: Y; Code_JEDEC: MO-178-AB; Code_IPC: SOT26A-6; ComponentLink1Description: Manufacturer URL; ComponentLink1URL: http://www.national.com/; ComponentLink2Description: LMH6720 Datasheet; ComponentLink2URL: http://www.national.com/ds/LM/LMH6720.pdf; ComponentLink3Description: LMH6720 Web Page; ComponentLink3URL: http://www.national.com/pf/LM/LMH6720.html; ComponentLink4Description: MF06A Package Page; ComponentLink4URL: http://www.national.com/packaging/folders/mf06a.html
footprint MF06A_N (SOT23, 6-Leads, Body 2.9x1.6mm, Pitch 0.95mm, Lead Span 2.8mm, IPC Medium Density)
footprint MF06A_L (SOT23, 6-Leads, Body 2.9x1.6mm, Pitch 0.95mm, Lead Span 2.8mm, IPC High Density)
footprint MF06A_M (SOT23, 6-Leads, Body 2.9x1.6mm, Pitch 0.95mm, Lead Span 2.8mm, IPC Low Density)
pins: 1 OUT (out), 2 V- (power), 3 IN+ (in), 4 IN- (in), 5 ~{SD}, 6 V+ (power)

## LMH6720MFX
designator U?
Single Wideband Video Op Amp with Shutdown, 6-pin SOT-23; PartNumber: LMH6720MFX; Manufacturer: National Semiconductor; PackageTopMarking: A96A*XTT; PowerWise: Y; CompType: Amplifiers; DatasheetVersion: Oct-2008; PackageVersion: revC, Sep-2005; PackageReference: MF06A; PackageDescription: Molded SOT-23, .115 x .063 x .040in Body, 6 Lead, .0375in in Pitch; RoHS: N; PinCount: 6; High-Reliability: Y; Code_JEDEC: MO-178-AB; Code_IPC: SOT26A-6; ComponentLink1Description: Manufacturer URL; ComponentLink1URL: http://www.national.com/; ComponentLink2Description: LMH6720 Datasheet; ComponentLink2URL: http://www.national.com/ds/LM/LMH6720.pdf; ComponentLink3Description: LMH6720 Web Page; ComponentLink3URL: http://www.national.com/pf/LM/LMH6720.html; ComponentLink4Description: MF06A Package Page; ComponentLink4URL: http://www.national.com/packaging/folders/mf06a.html
footprint MF06A_N (SOT23, 6-Leads, Body 2.9x1.6mm, Pitch 0.95mm, Lead Span 2.8mm, IPC Medium Density)
footprint MF06A_L (SOT23, 6-Leads, Body 2.9x1.6mm, Pitch 0.95mm, Lead Span 2.8mm, IPC High Density)
footprint MF06A_M (SOT23, 6-Leads, Body 2.9x1.6mm, Pitch 0.95mm, Lead Span 2.8mm, IPC Low Density)
pins: 1 OUT (out), 2 V- (power), 3 IN+ (in), 4 IN- (in), 5 ~{SD}, 6 V+ (power)

## LMH6722MA
designator U?
Quad Wideband Video Op Amp, 14-pin Narrow SOIC; PartNumber: LMH6722MA; Manufacturer: National Semiconductor; PackageTopMarking: NSUZXYTTE#*LMH67*22MA; PowerWise: Y; CompType: Amplifiers; DatasheetVersion: Oct-2008; PackageVersion: revJ, Jan-1996; PackageReference: M14A; PackageDescription: Molded Package S.O., .150in Wide, 14 Lead; RoHS: N; PinCount: 14; High-Reliability: Y; Code_JEDEC: MS-012AB; Code_IPC: SOIC127P600-14; ComponentLink1Description: Manufacturer URL; ComponentLink1URL: http://www.national.com/; ComponentLink2Description: LMH6722 Datasheet; ComponentLink2URL: http://www.national.com/ds/LM/LMH6722.pdf; ComponentLink3Description: LMH6722 Web Page; ComponentLink3URL: http://www.national.com/pf/LM/LMH6722.html; ComponentLink4Description: M14A Package Page; ComponentLink4URL: http://www.national.com/packaging/folders/m14a.html
footprint M14A_N (SOIC, 14-Leads, Body 8.6x3.9mm, Pitch 1.27mm, IPC Medium Density)
footprint M14A_L (SOIC, 14-Leads, Body 8.6x3.9mm, Pitch 1.27mm, IPC High Density)
footprint M14A_M (SOIC, 14-Leads, Body 8.6x3.9mm, Pitch 1.27mm, IPC Low Density)
pins on every part: 4 V+ (power), 11 V- (power)
part A pins: 1 OUTA (out), 2 INA- (in), 3 INA+ (in)
part B pins: 5 INB+ (in), 6 INB- (in), 7 OUTB (out)
part C pins: 8 OUTC (out), 9 INC- (in), 10 INC+ (in)
part D pins: 12 IND+ (in), 13 IND- (in), 14 OUTD (out)